# Altium schematic symbol library ERA-8VRB1202V.SchLib: 1 symbol
Pins are listed as number, name and electrical type; pins without a type are passive.

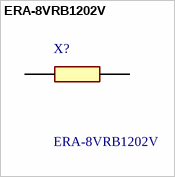
[diagram p0: symbol ERA-8VRB1202V]

## ERA-8VRB1202V
designator X?
Series/Type: Thin Film Chip Resistors, High Stability and Reliability Type, Power Rating (W): 0.25, Chip Size (LxW(EIA)) (mm): 3.2 x 1.6 (EIA:1206), Resistance Values (): 12000, Resistance Tolerance (%): 0.1, T.C.R (10/K): +/-10; Manufacturer_Name: Panasonic; Geometry.Height: 0.65mm; Mouser Part Number: 667-ERA-8VRB1202V; Mouser Price/Stock: https://www.mouser.co.uk/ProductDetail/Panasonic/ERA-8VRB1202V?qs=By6Nw2ByBD2l45MYRMXXUw%3D%3D; Manufacturer_Part_Number: ERA-8VRB1202V; Datasheet Link: https://industrial.panasonic.com/cdbs/www-data/pdf/RDM0000/RDM0000C331.pdf
footprint ERA8KEB1004V
pins: 1, 2